# EAGLE library part LP8733 (library Gowin)
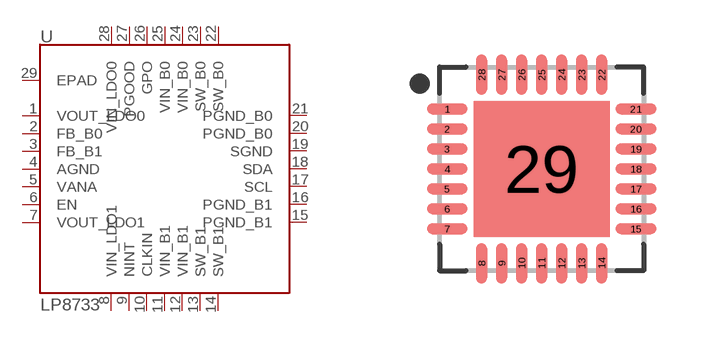
[diagram p5: symbol with the pads of QFN50P500X500X100-29T340N; footprint QFN50P500X500X100-29T340N]

Designator prefix -

## LP8733VQFN28  [QFN50P500X500X100-29T340N]
1  VOUT_LDO0
2  FB_B0
3  FB_B1
4  AGND
5  VANA
6  EN
7  VOUT_LDO1
8  VIN_LDO1
9  NINT
10  CLKIN
11  VIN_B1
12  VIN_B1
13  SW_B1
14  SW_B1
15  PGND_B1
16  PGND_B1
17  SCL
18  SDA
19  SGND
20  PGND_B0
21  PGND_B0
22  SW_B0
23  SW_B0
24  VIN_B0
25  VIN_B0
26  GPO
27  PGOOD
28  VIN_LDO0
29  EPAD

## Footprint QFN50P500X500X100-29T340N (pad centres in mm)
28-QFN, 0.50 mm pitch, 5.00 X 5.00 X 1.00 mm body, 3.40 X 3.40 mm thermal pad 28-pin QFN package with 0.50 mm pitch with body size 5.00 X 5.00 X 1.00 mm and thermal pad size 3.40 X 3.40 mm
smd 1.01 x 0.27: 1 -2.36,1.5; 2 -2.36,1; 3 -2.36,0.5; 4 -2.36,0; 5 -2.36,-0.5; 6 -2.36,-1; 7 -2.36,-1.5; 15 2.36,-1.5; 16 2.36,-1; 17 2.36,-0.5; 18 2.36,0; 19 2.36,0.5; 20 2.36,1; 21 2.36,1.5
smd 0.27 x 1.01: 8 -1.5,-2.36; 9 -1,-2.36; 10 -0.5,-2.36; 11 0,-2.36; 12 0.5,-2.36; 13 1,-2.36; 14 1.5,-2.36; 22 1.5,2.36; 23 1,2.36; 24 0.5,2.36; 25 0,2.36; 26 -0.5,2.36; 27 -1,2.36; 28 -1.5,2.36
smd 3.4 x 3.4: 29 0,0